# Altium schematic symbol library TRANS_PNP_TIP42C_1.Schlib: 1 symbol
Pins are listed as number, name and electrical type; pins without a type are passive.

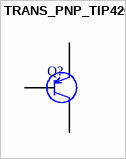
[diagram p0: symbol TRANS_PNP_TIP42C]

## TRANS_PNP_TIP42C
designator Q?, comment PNP  (value not drawn)
Bipolar (BJT) Transistor PNP 100V 6A 3MHz 2W
footprint TO220-123
pins: 1 B, 2 C, 3 E